# Altium schematic symbol library Diode.SchLib: 693 symbols (part 3 of 5)
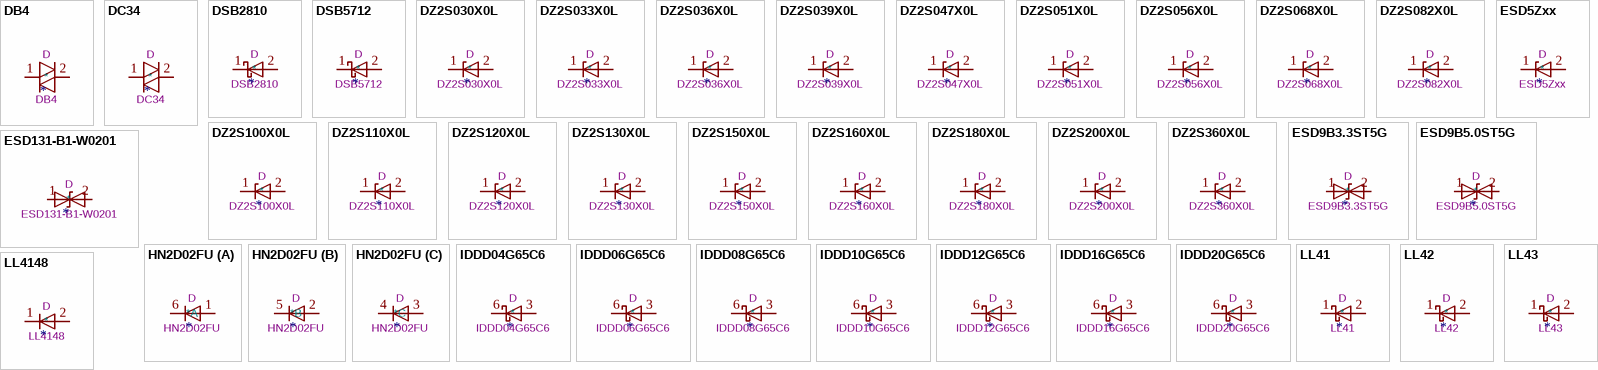
[diagram p20: symbols DB4 to LL4148]

## IDDD10G65C6
designator *  value IDDD10G65C6  Reference: D
ki_keywords: sic diode; ki_description: 650V, 10A, SiC Schottky Diode, CoolSiC, PG-HDSOP-10-1 (DDPAK); ki_fp_filters: Infineon*PG*HDSOP*; Footprint: Package_TO_SOT_SMD:Infineon_PG-HDSOP-10-1; Datasheet: https://www.infineon.com/dgdl/Infineon-IDDD10G65C6-DS-v02_00-EN.pdf?fileId=5546d462625a528f01628ff848ec1051
pins: 1 NC hidden, 2 NC hidden, 3 A, 4 A hidden, 5 A hidden, 6 K, 7 K hidden, 8 K hidden, 9 K hidden, 10 K hidden

## IDDD12G65C6
designator *  value IDDD12G65C6  Reference: D
ki_keywords: sic diode; ki_description: 650V, 12A, SiC Schottky Diode, CoolSiC, PG-HDSOP-10-1 (DDPAK); ki_fp_filters: Infineon*PG*HDSOP*; Footprint: Package_TO_SOT_SMD:Infineon_PG-HDSOP-10-1; Datasheet: https://www.infineon.com/dgdl/Infineon-IDDD12G65C6-DS-v02_00-EN.pdf?fileId=5546d462625a528f01628f86ec3e0e06
pins: 1 NC hidden, 2 NC hidden, 3 A, 4 A hidden, 5 A hidden, 6 K, 7 K hidden, 8 K hidden, 9 K hidden, 10 K hidden

## IDDD16G65C6
designator *  value IDDD16G65C6  Reference: D
ki_keywords: sic diode; ki_description: 650V, 16A, SiC Schottky Diode, CoolSiC, PG-HDSOP-10-1 (DDPAK); ki_fp_filters: Infineon*PG*HDSOP*; Footprint: Package_TO_SOT_SMD:Infineon_PG-HDSOP-10-1; Datasheet: https://www.infineon.com/dgdl/Infineon-IDDD16G65C6-DS-v02_00-EN.pdf?fileId=5546d462625a528f01628f8711b50e0c
pins: 1 NC hidden, 2 NC hidden, 3 A, 4 A hidden, 5 A hidden, 6 K, 7 K hidden, 8 K hidden, 9 K hidden, 10 K hidden

## IDDD20G65C6
designator *  value IDDD20G65C6  Reference: D
ki_keywords: sic diode; ki_description: 650V, 20A, SiC Schottky Diode, CoolSiC, PG-HDSOP-10-1 (DDPAK); ki_fp_filters: Infineon*PG*HDSOP*; Footprint: Package_TO_SOT_SMD:Infineon_PG-HDSOP-10-1; Datasheet: https://www.infineon.com/dgdl/Infineon-IDDD20G65C6-DS-v02_00-EN.pdf?fileId=5546d462625a528f01628ff837cf104e
pins: 1 NC hidden, 2 NC hidden, 3 A, 4 A hidden, 5 A hidden, 6 K, 7 K hidden, 8 K hidden, 9 K hidden, 10 K hidden

## LL41
designator *  value LL41  Reference: D
ki_keywords: diode Schottky; ki_description: 100V 0.1A Small Signal Schottky diode, MiniMELF; ki_fp_filters: D*MiniMELF*; Footprint: Diode_SMD:D_MiniMELF; Datasheet: http://www.vishay.com/docs/85659/bat41.pdf
pins: 1 K, 2 A

## LL42
designator *  value LL42  Reference: D
ki_keywords: diode Schottky; ki_description: 30V 0.2A Small Signal Schottky diode, MiniMELF; ki_fp_filters: D*MiniMELF*; Footprint: Diode_SMD:D_MiniMELF; Datasheet: http://www.vishay.com/docs/85672/ll42.pdf
pins: 1 K, 2 A

## LL43
designator *  value LL43  Reference: D
ki_keywords: diode Schottky; ki_description: 30V 0.2A Small Signal Schottky diode, MiniMELF; ki_fp_filters: D*MiniMELF*; Footprint: Diode_SMD:D_MiniMELF; Datasheet: http://www.vishay.com/docs/85672/ll42.pdf
pins: 1 K, 2 A

## LL4148
designator *  value LL4148  Reference: D
Sim.Pins: 1=K 2=A; ki_keywords: diode; ki_description: 100V 0.15A standard switching diode, MiniMELF; ki_fp_filters: D*MiniMELF*; Footprint: Diode_SMD:D_MiniMELF; Datasheet: http://www.vishay.com/docs/85557/ll4148.pdf; Sim.Device: D
pins: 1 K, 2 A

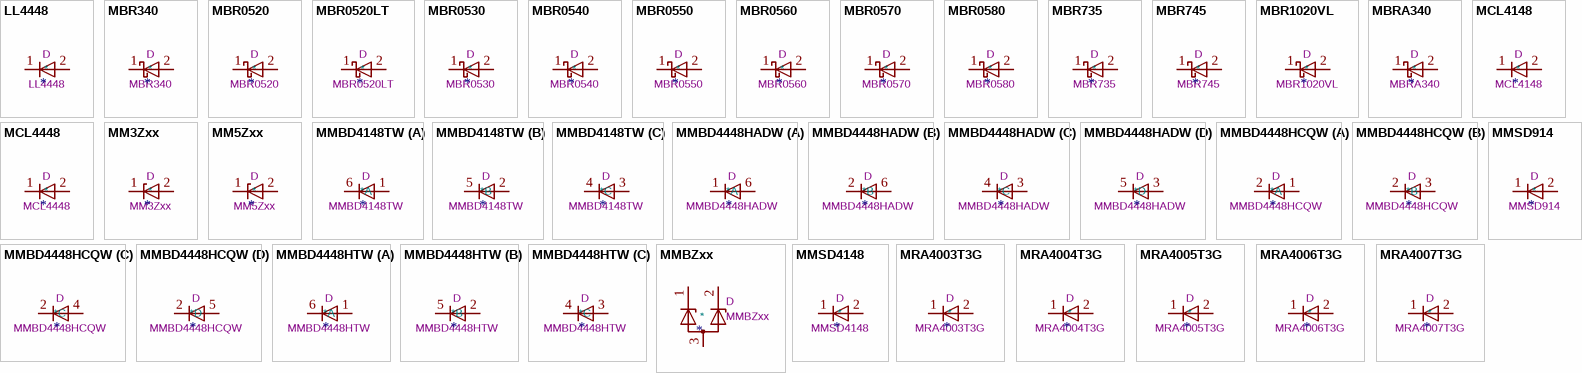
[diagram p9: symbols LL4448 to MRA4007T3G]

## LL4448
designator *  value LL4448  Reference: D
Sim.Pins: 1=K 2=A; ki_keywords: diode; ki_description: 100V 0.15A standard switching diode, MiniMELF; ki_fp_filters: D*MiniMELF*; Footprint: Diode_SMD:D_MiniMELF; Datasheet: http://www.vishay.com/docs/85557/ll4148.pdf; Sim.Device: D
pins: 1 K, 2 A

## MBR340
designator *  value MBR340  Reference: D
ki_keywords: diode Schottky; ki_description: 40V 3A Schottky Barrier Rectifier Diode, DO-201AD; ki_fp_filters: D*DO?201AD*; Footprint: Diode_THT:D_DO-201AD_P15.24mm_Horizontal; Datasheet: http://www.onsemi.com/pub_link/Collateral/MBR340-D.PDF
pins: 1 K, 2 A

## MBR0520
designator *  value MBR0520  Reference: D
ki_keywords: diode Schottky; ki_description: 20V 0.5A Schottky Power Rectifier Diode, SOD-123; ki_fp_filters: D*SOD?123*; Footprint: Diode_SMD:D_SOD-123; Datasheet: http://www.mccsemi.com/up_pdf/MBR0520~MBR0580(SOD123).pdf
pins: 1 K, 2 A

## MBR0520LT
designator *  value MBR0520LT  Reference: D
ki_keywords: diode Schottky; ki_description: 20V 0.5A Schottky Power Rectifier Diode, SOD-123; ki_fp_filters: D*SOD?123*; Footprint: Diode_SMD:D_SOD-123; Datasheet: http://www.onsemi.com/pub_link/Collateral/MBR0520LT1-D.PDF
pins: 1 K, 2 A

## MBR0530
designator *  value MBR0530  Reference: D
ki_keywords: diode Schottky; ki_description: 30V 0.5A Schottky Power Rectifier Diode, SOD-123; ki_fp_filters: D*SOD?123*; Footprint: Diode_SMD:D_SOD-123; Datasheet: http://www.mccsemi.com/up_pdf/MBR0520~MBR0580(SOD123).pdf
pins: 1 K, 2 A

## MBR0540
designator *  value MBR0540  Reference: D
ki_keywords: diode Schottky; ki_description: 40V 0.5A Schottky Power Rectifier Diode, SOD-123; ki_fp_filters: D*SOD?123*; Footprint: Diode_SMD:D_SOD-123; Datasheet: http://www.mccsemi.com/up_pdf/MBR0520~MBR0580(SOD123).pdf
pins: 1 K, 2 A

## MBR0550
designator *  value MBR0550  Reference: D
ki_keywords: diode Schottky; ki_description: 50V 0.5A Schottky Power Rectifier Diode, SOD-123; ki_fp_filters: D*SOD?123*; Footprint: Diode_SMD:D_SOD-123; Datasheet: http://www.mccsemi.com/up_pdf/MBR0520~MBR0580(SOD123).pdf
pins: 1 K, 2 A

## MBR0560
designator *  value MBR0560  Reference: D
ki_keywords: diode Schottky; ki_description: 60V 0.5A Schottky Power Rectifier Diode, SOD-123; ki_fp_filters: D*SOD?123*; Footprint: Diode_SMD:D_SOD-123; Datasheet: http://www.mccsemi.com/up_pdf/MBR0520~MBR0580(SOD123).pdf
pins: 1 K, 2 A

## MBR0570
designator *  value MBR0570  Reference: D
ki_keywords: diode Schottky; ki_description: 70V 0.5A Schottky Power Rectifier Diode, SOD-123; ki_fp_filters: D*SOD?123*; Footprint: Diode_SMD:D_SOD-123; Datasheet: http://www.mccsemi.com/up_pdf/MBR0520~MBR0580(SOD123).pdf
pins: 1 K, 2 A

## MBR0580
designator *  value MBR0580  Reference: D
ki_keywords: diode Schottky; ki_description: 80V 0.5A Schottky Power Rectifier Diode, SOD-123; ki_fp_filters: D*SOD?123*; Footprint: Diode_SMD:D_SOD-123; Datasheet: http://www.mccsemi.com/up_pdf/MBR0520~MBR0580(SOD123).pdf
pins: 1 K, 2 A

## MBR735
designator *  value MBR735  Reference: D
ki_keywords: diode Schottky; ki_description: 35V 7.5A Schottky Barrier Rectifier Diode, TO-220; ki_fp_filters: TO?220*; Footprint: Package_TO_SOT_THT:TO-220-2_Vertical; Datasheet: http://www.onsemi.com/pub_link/Collateral/MBR735-D.PDF
pins: 1 K, 2 A

## MBR745
designator *  value MBR745  Reference: D
ki_keywords: diode Schottky; ki_description: 45V 7.5A Schottky Barrier Rectifier Diode, TO-220; ki_fp_filters: TO?220*; Footprint: Package_TO_SOT_THT:TO-220-2_Vertical; Datasheet: http://www.onsemi.com/pub_link/Collateral/MBR735-D.PDF
pins: 1 K, 2 A

## MBR1020VL
designator *  value MBR1020VL  Reference: D
ki_keywords: forward voltage diode; ki_description: 20V, 1A, 340 mV, Schottky Diode Rectifier, SOD-123F; ki_fp_filters: D*SOD?123F*; Footprint: Diode_SMD:D_SOD-123F; Datasheet: https://www.onsemi.com/pub/Collateral/MBR1020VL-D.PDF
pins: 1 K, 2 A

## MBRA340
designator *  value MBRA340  Reference: D
ki_keywords: diode Schottky; ki_description: 40V 3A Schottky Barrier Rectifier Diode, SMA(DO-214AC); ki_fp_filters: D*SMA*; Footprint: Diode_SMD:D_SMA; Datasheet: https://www.onsemi.com/pub/Collateral/MBRA340T3-D.PDF
pins: 1 K, 2 A

## MCL4148
designator *  value MCL4148  Reference: D
Sim.Pins: 1=K 2=A; ki_keywords: diode; ki_description: 75V 0.2A Switching Diode, MicroMELF; ki_fp_filters: D*MicroMELF*; Footprint: Diode_SMD:D_MicroMELF; Datasheet: http://www.vishay.com/docs/85566/mlc4148.pdf; Sim.Device: D
pins: 1 K, 2 A

## MCL4448
designator *  value MCL4448  Reference: D
Sim.Pins: 1=K 2=A; ki_keywords: diode; ki_description: 75V 0.2A Switching Diode, MicroMELF; ki_fp_filters: D*MicroMELF*; Footprint: Diode_SMD:D_MicroMELF; Datasheet: http://www.vishay.com/docs/85566/mlc4148.pdf; Sim.Device: D
pins: 1 K, 2 A

## MM3Zxx
designator *  value MM3Zxx  Reference: D
ki_keywords: zener diode; ki_description: 300mW Zener Diode, SOD-323F; ki_fp_filters: D?SOD?323F*; Footprint: Diode_SMD:D_SOD-323F; Datasheet: https://diotec.com/tl_files/diotec/files/pdf/datasheets/mm3z2v4.pdf
pins: 1 K, 2 A

## MM5Zxx
designator *  value MM5Zxx  Reference: D
ki_keywords: zener diode; ki_description: 300mW Zener Diode, SOD-523; ki_fp_filters: D?SOD?523*; Footprint: Diode_SMD:D_SOD-523; Datasheet: https://diotec.com/tl_files/diotec/files/pdf/datasheets/mm5z2v4.pdf
pins: 1 K, 2 A

## MMBD4148TW
designator *  value MMBD4148TW  Reference: D
ki_keywords: diode; ki_description: Fast switching diode array 3 independent; ki_fp_filters: *SOT?363*; Footprint: Package_TO_SOT_SMD:SOT-363_SC-70-6; Datasheet: http://www.diodes.com/datasheets/ds30154.pdf
part A pins: 1 A, 6 K
part B pins: 2 A, 5 K
part C pins: 3 A, 4 K

## MMBD4448HADW
designator *  value MMBD4448HADW  Reference: D
ki_keywords: diode; ki_description: Fast Switching Diode Array 2 pair Com A; ki_fp_filters: SOT?363*; Footprint: Package_TO_SOT_SMD:SOT-363_SC-70-6; Datasheet: http://www.diodes.com/datasheets/ds30153.pdf
part A pins: 1 K, 6 A
part B pins: 2 K, 6 A
part C pins: 3 A, 4 K
part D pins: 3 A, 5 K

## MMBD4448HCQW
designator *  value MMBD4448HCQW  Reference: D
ki_keywords: diode; ki_description: Quad Switching Diode Array Common Cathode; ki_fp_filters: SOT?353*; Footprint: Package_TO_SOT_SMD:SOT-353_SC-70-5; Datasheet: http://www.diodes.com/datasheets/ds30153.pdf
part A pins: 1 A, 2 K
part B pins: 2 K, 3 A
part C pins: 2 K, 4 A
part D pins: 2 K, 5 A

## MMBD4448HTW
designator *  value MMBD4448HTW  Reference: D
ki_keywords: diode; ki_description: Fast switching diode array 3 independent; ki_fp_filters: *SOT?363*; Footprint: Package_TO_SOT_SMD:SOT-363_SC-70-6; Datasheet: http://www.diodes.com/datasheets/ds30153.pdf
part A pins: 1 A, 6 K
part B pins: 2 A, 5 K
part C pins: 3 A, 4 K

## MMBZxx
designator *  value MMBZxx  Reference: D
ki_keywords: dual zener diode; ki_description: Double Zener Diode, Common Anode, 225mW, SOT-23; ki_fp_filters: SOT?23*; Footprint: Package_TO_SOT_SMD:SOT-23; Datasheet: http://www.onsemi.com/pub/Collateral/MMBZ5V6ALT1-D.PDF
pins: 1 K, 2 K, 3 A

## MMSD914
designator *  value MMSD914  Reference: D
Sim.Pins: 1=K 2=A; ki_keywords: diode; ki_description: 100V 0.2A Switching Diode, SOD-123; ki_fp_filters: D*SOD?123*; Footprint: Diode_SMD:D_SOD-123; Datasheet: https://www.onsemi.com/pub/Collateral/MMSD914T1-D.PDF; Sim.Device: D
pins: 1 K, 2 A

## MMSD4148
designator *  value MMSD4148  Reference: D
Sim.Pins: 1=K 2=A; ki_keywords: diode; ki_description: 100V 200mA Switching Diode, SOD-123; ki_fp_filters: D*SOD?123*; Footprint: Diode_SMD:D_SOD-123; Datasheet: https://www.onsemi.com/pub/Collateral/MMSD4148T1-D.PDF; Sim.Device: D
pins: 1 K, 2 A

## MRA4003T3G
designator *  value MRA4003T3G  Reference: D
Sim.Pins: 1=K 2=A; ki_keywords: diode; ki_description: 300V, 1A, General Purpose Rectifier Diode, SMA(DO-214AC); ki_fp_filters: D*SMA*; Footprint: Diode_SMD:D_SMA; Datasheet: http://www.onsemi.com/pub_link/Collateral/MRA4003T3-D.PDF; Sim.Device: D
pins: 1 K, 2 A

## MRA4004T3G
designator *  value MRA4004T3G  Reference: D
Sim.Pins: 1=K 2=A; ki_keywords: diode; ki_description: 400V, 1A, General Purpose Rectifier Diode, SMA(DO-214AC); ki_fp_filters: D*SMA*; Footprint: Diode_SMD:D_SMA; Datasheet: http://www.onsemi.com/pub_link/Collateral/MRA4003T3-D.PDF; Sim.Device: D
pins: 1 K, 2 A

## MRA4005T3G
designator *  value MRA4005T3G  Reference: D
Sim.Pins: 1=K 2=A; ki_keywords: diode; ki_description: 600V, 1A, General Purpose Rectifier Diode, SMA(DO-214AC); ki_fp_filters: D*SMA*; Footprint: Diode_SMD:D_SMA; Datasheet: http://www.onsemi.com/pub_link/Collateral/MRA4003T3-D.PDF; Sim.Device: D
pins: 1 K, 2 A

## MRA4006T3G
designator *  value MRA4006T3G  Reference: D
Sim.Pins: 1=K 2=A; ki_keywords: diode; ki_description: 800V, 1A, General Purpose Rectifier Diode, SMA(DO-214AC); ki_fp_filters: D*SMA*; Footprint: Diode_SMD:D_SMA; Datasheet: http://www.onsemi.com/pub_link/Collateral/MRA4003T3-D.PDF; Sim.Device: D
pins: 1 K, 2 A

## MRA4007T3G
designator *  value MRA4007T3G  Reference: D
Sim.Pins: 1=K 2=A; ki_keywords: diode; ki_description: 1000V, 1A, General Purpose Rectifier Diode, SMA(DO-214AC); ki_fp_filters: D*SMA*; Footprint: Diode_SMD:D_SMA; Datasheet: http://www.onsemi.com/pub_link/Collateral/MRA4003T3-D.PDF; Sim.Device: D
pins: 1 K, 2 A

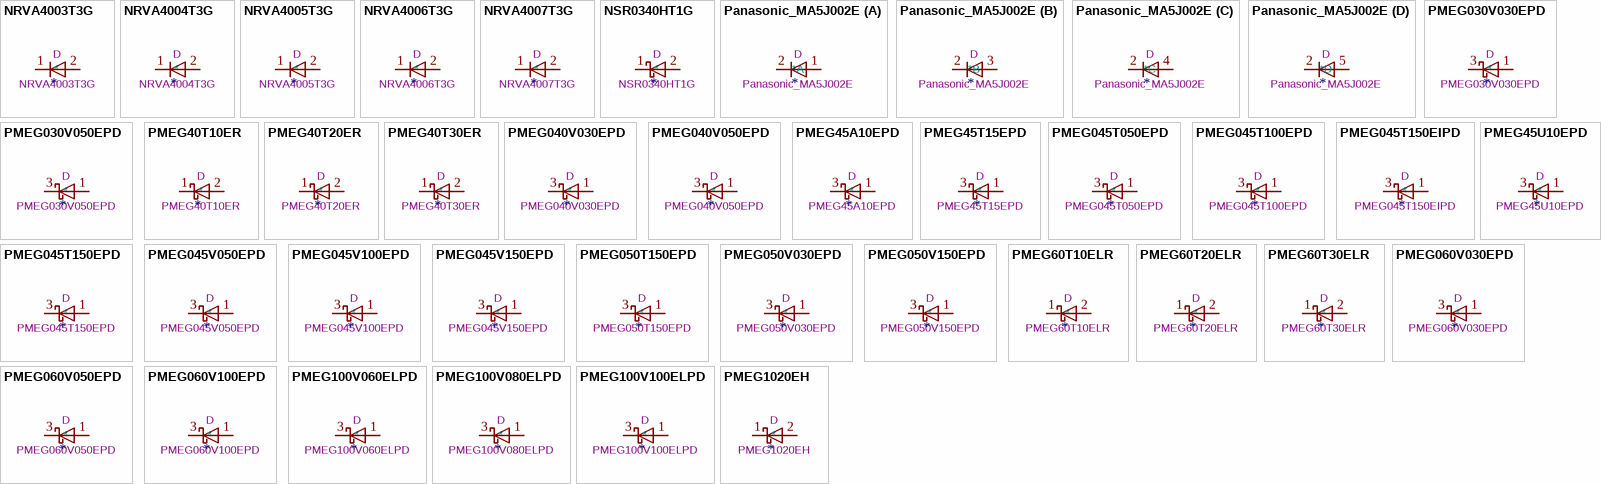
[diagram p10: symbols NRVA4003T3G to PMEG1020EH]

## NRVA4003T3G
designator *  value NRVA4003T3G  Reference: D
Sim.Pins: 1=K 2=A; ki_keywords: AEC-Q101; ki_description: 300V, 1A, General Purpose Rectifier Diode, SMA(DO-214AC); ki_fp_filters: D*SMA*; Footprint: Diode_SMD:D_SMA; Datasheet: http://www.onsemi.com/pub_link/Collateral/MRA4003T3-D.PDF; Sim.Device: D
pins: 1 K, 2 A

## NRVA4004T3G
designator *  value NRVA4004T3G  Reference: D
Sim.Pins: 1=K 2=A; ki_keywords: AEC-Q101; ki_description: 400V, 1A, General Purpose Rectifier Diode, SMA(DO-214AC); ki_fp_filters: D*SMA*; Footprint: Diode_SMD:D_SMA; Datasheet: http://www.onsemi.com/pub_link/Collateral/MRA4003T3-D.PDF; Sim.Device: D
pins: 1 K, 2 A

## NRVA4005T3G
designator *  value NRVA4005T3G  Reference: D
Sim.Pins: 1=K 2=A; ki_keywords: AEC-Q101; ki_description: 600V, 1A, General Purpose Rectifier Diode, SMA(DO-214AC); ki_fp_filters: D*SMA*; Footprint: Diode_SMD:D_SMA; Datasheet: http://www.onsemi.com/pub_link/Collateral/MRA4003T3-D.PDF; Sim.Device: D
pins: 1 K, 2 A

## NRVA4006T3G
designator *  value NRVA4006T3G  Reference: D
Sim.Pins: 1=K 2=A; ki_keywords: AEC-Q101; ki_description: 800V, 1A, General Purpose Rectifier Diode, SMA(DO-214AC); ki_fp_filters: D*SMA*; Footprint: Diode_SMD:D_SMA; Datasheet: http://www.onsemi.com/pub_link/Collateral/MRA4003T3-D.PDF; Sim.Device: D
pins: 1 K, 2 A

## NRVA4007T3G
designator *  value NRVA4007T3G  Reference: D
Sim.Pins: 1=K 2=A; ki_keywords: AEC-Q101; ki_description: 1000V, 1A, General Purpose Rectifier Diode, SMA(DO-214AC); ki_fp_filters: D*SMA*; Footprint: Diode_SMD:D_SMA; Datasheet: http://www.onsemi.com/pub_link/Collateral/MRA4003T3-D.PDF; Sim.Device: D
pins: 1 K, 2 A

## NSR0340HT1G
designator *  value NSR0340HT1G  Reference: D
ki_keywords: diode Schottky; ki_description: 40V 0.25A Schottky Diode, SOD-323; ki_fp_filters: D*SOD?323*; Footprint: Diode_SMD:D_SOD-323; Datasheet: https://www.onsemi.com/pub/Collateral/NSR0340H-D.PDF
pins: 1 K, 2 A

## Panasonic_MA5J002E
designator *  value Panasonic_MA5J002E  Reference: D
ki_keywords: diode; ki_description: Quad Ultra high Speed Switching Diode Array Com K; ki_fp_filters: SOT?353*; Footprint: Package_TO_SOT_SMD:SOT-353_SC-70-5; Datasheet: http://www.semicon.panasonic.co.jp/ds4/MA5J002E_BED_discon.pdf
part A pins: 1 A, 2 K
part B pins: 2 K, 3 A
part C pins: 2 K, 4 A
part D pins: 2 K, 5 A

## PMEG030V030EPD
designator *  value PMEG030V030EPD  Reference: D
ki_keywords: forward voltage diode; ki_description: 30V, 3A low Vf MEGA Schottky barrier rectifier, SOT-1289; ki_fp_filters: Nexperia*CFP15*SOT?1289*; Footprint: Package_TO_SOT_SMD:Nexperia_CFP15_SOT-1289; Datasheet: https://assets.nexperia.com/documents/data-sheet/PMEG030V030EPD.pdf
pins: 1 A, 2 A hidden, 3 K

## PMEG030V050EPD
designator *  value PMEG030V050EPD  Reference: D
ki_keywords: forward voltage diode; ki_description: 30V, 5A low Vf MEGA Schottky barrier rectifier, SOT-1289; ki_fp_filters: Nexperia*CFP15*SOT?1289*; Footprint: Package_TO_SOT_SMD:Nexperia_CFP15_SOT-1289; Datasheet: https://assets.nexperia.com/documents/data-sheet/PMEG030V050EPD.pdf
pins: 1 A, 2 A hidden, 3 K

## PMEG40T10ER
designator *  value PMEG40T10ER  Reference: D
ki_keywords: forward voltage diode; ki_description: 40V, 1A low Vf Trench MEGA Schottky barrier rectifier, SOD-123W; ki_fp_filters: Nexperia*CFP3*SOD?123W*; Footprint: Diode_SMD:Nexperia_CFP3_SOD-123W; Datasheet: https://assets.nexperia.com/documents/data-sheet/PMEG40T10ER.pdf
pins: 1 K, 2 A

## PMEG40T20ER
designator *  value PMEG40T20ER  Reference: D
ki_keywords: forward voltage diode; ki_description: 40V, 2A low Vf Trench MEGA Schottky barrier rectifier, SOD-123W; ki_fp_filters: Nexperia*CFP3*SOD?123W*; Footprint: Diode_SMD:Nexperia_CFP3_SOD-123W; Datasheet: https://assets.nexperia.com/documents/data-sheet/PMEG40T20ER.pdf
pins: 1 K, 2 A

## PMEG40T30ER
designator *  value PMEG40T30ER  Reference: D
ki_keywords: forward voltage diode; ki_description: 40V, 3A low Vf Trench MEGA Schottky barrier rectifier, SOD-123W; ki_fp_filters: Nexperia*CFP3*SOD?123W*; Footprint: Diode_SMD:Nexperia_CFP3_SOD-123W; Datasheet: https://assets.nexperia.com/documents/data-sheet/PMEG40T30ER.pdf
pins: 1 K, 2 A

## PMEG040V030EPD
designator *  value PMEG040V030EPD  Reference: D
ki_keywords: forward voltage diode; ki_description: 40V, 3A low Vf MEGA Schottky barrier rectifier, SOT-1289; ki_fp_filters: Nexperia*CFP15*SOT?1289*; Footprint: Package_TO_SOT_SMD:Nexperia_CFP15_SOT-1289; Datasheet: https://assets.nexperia.com/documents/data-sheet/PMEG040V030EPD.pdf
pins: 1 A, 2 A hidden, 3 K

## PMEG040V050EPD
designator *  value PMEG040V050EPD  Reference: D
ki_keywords: forward voltage diode; ki_description: 40V, 5A low Vf MEGA Schottky barrier rectifier, SOT-1289; ki_fp_filters: Nexperia*CFP15*SOT?1289*; Footprint: Package_TO_SOT_SMD:Nexperia_CFP15_SOT-1289; Datasheet: https://assets.nexperia.com/documents/data-sheet/PMEG040V050EPD.pdf
pins: 1 A, 2 A hidden, 3 K

## PMEG45A10EPD
designator *  value PMEG45A10EPD  Reference: D
ki_keywords: forward voltage diode; ki_description: 45V, 10A low Vf MEGA Schottky barrier rectifier, SOT-1289; ki_fp_filters: Nexperia*CFP15*SOT?1289*; Footprint: Package_TO_SOT_SMD:Nexperia_CFP15_SOT-1289; Datasheet: https://assets.nexperia.com/documents/data-sheet/PMEG45A10EPD.pdf
pins: 1 A, 2 A hidden, 3 K

## PMEG45T15EPD
designator *  value PMEG45T15EPD  Reference: D
ki_keywords: forward voltage diode; ki_description: 45V, 15A low Vf Trench MEGA Schottky barrier rectifier, SOT-1289; ki_fp_filters: Nexperia*CFP15*SOT?1289*; Footprint: Package_TO_SOT_SMD:Nexperia_CFP15_SOT-1289; Datasheet: https://assets.nexperia.com/documents/data-sheet/PMEG45T15EPD.pdf
pins: 1 A, 2 A hidden, 3 K

## PMEG045T050EPD
designator *  value PMEG045T050EPD  Reference: D
ki_keywords: forward voltage diode; ki_description: 45V, 5A low Vf Trench MEGA Schottky barrier rectifier, SOT-1289; ki_fp_filters: Nexperia*CFP15*SOT?1289*; Footprint: Package_TO_SOT_SMD:Nexperia_CFP15_SOT-1289; Datasheet: https://assets.nexperia.com/documents/data-sheet/PMEG045T050EPD.pdf
pins: 1 A, 2 A hidden, 3 K

## PMEG045T100EPD
designator *  value PMEG045T100EPD  Reference: D
ki_keywords: forward voltage diode; ki_description: 45V, 10A low Vf Trench MEGA Schottky barrier rectifier, SOT-1289; ki_fp_filters: Nexperia*CFP15*SOT?1289*; Footprint: Package_TO_SOT_SMD:Nexperia_CFP15_SOT-1289; Datasheet: https://assets.nexperia.com/documents/data-sheet/PMEG045T100EPD.pdf
pins: 1 A, 2 A hidden, 3 K

## PMEG045T150EIPD
designator *  value PMEG045T150EIPD  Reference: D
ki_keywords: forward voltage diode; ki_description: 45V, 15A low Vf Trench MEGA Schottky barrier rectifier, SOT-1289; ki_fp_filters: Nexperia*CFP15*SOT?1289*; Footprint: Package_TO_SOT_SMD:Nexperia_CFP15_SOT-1289; Datasheet: https://assets.nexperia.com/documents/data-sheet/PMEG045T150EIPD.pdf
pins: 1 A, 2 A hidden, 3 K

## PMEG045T150EPD
designator *  value PMEG045T150EPD  Reference: D
ki_keywords: forward voltage diode; ki_description: 45V, 15A low Vf Trench MEGA Schottky barrier rectifier, SOT-1289; ki_fp_filters: Nexperia*CFP15*SOT?1289*; Footprint: Package_TO_SOT_SMD:Nexperia_CFP15_SOT-1289; Datasheet: https://assets.nexperia.com/documents/data-sheet/PMEG045T150EPD.pdf
pins: 1 A, 2 A hidden, 3 K

## PMEG45U10EPD
designator *  value PMEG45U10EPD  Reference: D
ki_keywords: forward voltage diode; ki_description: 45V, 10A extremely low Vf MEGA Schottky barrier rectifier, SOT-1289; ki_fp_filters: Nexperia*CFP15*SOT?1289*; Footprint: Package_TO_SOT_SMD:Nexperia_CFP15_SOT-1289; Datasheet: https://assets.nexperia.com/documents/data-sheet/PMEG45U10EPD.pdf
pins: 1 A, 2 A hidden, 3 K

## PMEG045V050EPD
designator *  value PMEG045V050EPD  Reference: D
ki_keywords: forward voltage diode; ki_description: 45V, 5A low Vf MEGA Schottky barrier rectifier, SOT-1289; ki_fp_filters: Nexperia*CFP15*SOT?1289*; Footprint: Package_TO_SOT_SMD:Nexperia_CFP15_SOT-1289; Datasheet: https://assets.nexperia.com/documents/data-sheet/PMEG045V050EPD.pdf
pins: 1 A, 2 A hidden, 3 K

## PMEG045V100EPD
designator *  value PMEG045V100EPD  Reference: D
ki_keywords: forward voltage diode; ki_description: 45V, 10A low Vf MEGA Schottky barrier rectifier, SOT-1289; ki_fp_filters: Nexperia*CFP15*SOT?1289*; Footprint: Package_TO_SOT_SMD:Nexperia_CFP15_SOT-1289; Datasheet: https://assets.nexperia.com/documents/data-sheet/PMEG045V100EPD.pdf
pins: 1 A, 2 A hidden, 3 K

## PMEG045V150EPD
designator *  value PMEG045V150EPD  Reference: D
ki_keywords: forward voltage diode; ki_description: 45V, 15A low Vf MEGA Schottky barrier rectifier, SOT-1289; ki_fp_filters: Nexperia*CFP15*SOT?1289*; Footprint: Package_TO_SOT_SMD:Nexperia_CFP15_SOT-1289; Datasheet: https://assets.nexperia.com/documents/data-sheet/PMEG045V150EPD.pdf
pins: 1 A, 2 A hidden, 3 K

## PMEG050T150EPD
designator *  value PMEG050T150EPD  Reference: D
ki_keywords: forward voltage diode; ki_description: 50V, 15A low Vf Trench MEGA Schottky barrier rectifier, SOT-1289; ki_fp_filters: Nexperia*CFP15*SOT?1289*; Footprint: Package_TO_SOT_SMD:Nexperia_CFP15_SOT-1289; Datasheet: https://assets.nexperia.com/documents/data-sheet/PMEG050T150EPD.pdf
pins: 1 A, 2 A hidden, 3 K

## PMEG050V030EPD
designator *  value PMEG050V030EPD  Reference: D
ki_keywords: forward voltage diode; ki_description: 50V, 3A low Vf MEGA Schottky barrier rectifier, SOT-1289; ki_fp_filters: Nexperia*CFP15*SOT?1289*; Footprint: Package_TO_SOT_SMD:Nexperia_CFP15_SOT-1289; Datasheet: https://assets.nexperia.com/documents/data-sheet/PMEG050V030EPD.pdf
pins: 1 A, 2 A hidden, 3 K

## PMEG050V150EPD
designator *  value PMEG050V150EPD  Reference: D
ki_keywords: forward voltage diode; ki_description: 50V, 15A low Vf MEGA Schottky barrier rectifier, SOT-1289; ki_fp_filters: Nexperia*CFP15*SOT?1289*; Footprint: Package_TO_SOT_SMD:Nexperia_CFP15_SOT-1289; Datasheet: https://assets.nexperia.com/documents/data-sheet/PMEG050V150EPD.pdf
pins: 1 A, 2 A hidden, 3 K

## PMEG60T10ELR
designator *  value PMEG60T10ELR  Reference: D
ki_keywords: ir diode; ki_description: 60V, 1A low leakage current Trench MEGA Schottky barrier rectifier, SOD-123W; ki_fp_filters: Nexperia*CFP3*SOD?123W*; Footprint: Diode_SMD:Nexperia_CFP3_SOD-123W; Datasheet: https://assets.nexperia.com/documents/data-sheet/PMEG60T10ELR.pdf
pins: 1 K, 2 A

## PMEG60T20ELR
designator *  value PMEG60T20ELR  Reference: D
ki_keywords: ir diode; ki_description: 60V, 2A low leakage current Trench MEGA Schottky barrier rectifier, SOD-123W; ki_fp_filters: Nexperia*CFP3*SOD?123W*; Footprint: Diode_SMD:Nexperia_CFP3_SOD-123W; Datasheet: https://assets.nexperia.com/documents/data-sheet/PMEG60T20ELR.pdf
pins: 1 K, 2 A

## PMEG60T30ELR
designator *  value PMEG60T30ELR  Reference: D
ki_keywords: ir diode; ki_description: 60V, 3A low leakage current Trench MEGA Schottky barrier rectifier, SOD-123W; ki_fp_filters: Nexperia*CFP3*SOD?123W*; Footprint: Diode_SMD:Nexperia_CFP3_SOD-123W; Datasheet: https://assets.nexperia.com/documents/data-sheet/PMEG60T30ELR.pdf
pins: 1 K, 2 A

## PMEG060V030EPD
designator *  value PMEG060V030EPD  Reference: D
ki_keywords: forward voltage diode; ki_description: 60V, 3A low Vf MEGA Schottky barrier rectifier, SOT-1289; ki_fp_filters: Nexperia*CFP15*SOT?1289*; Footprint: Package_TO_SOT_SMD:Nexperia_CFP15_SOT-1289; Datasheet: https://assets.nexperia.com/documents/data-sheet/PMEG060V030EPD.pdf
pins: 1 A, 2 A hidden, 3 K

## PMEG060V050EPD
designator *  value PMEG060V050EPD  Reference: D
ki_keywords: forward voltage diode; ki_description: 60V, 5A low Vf MEGA Schottky barrier rectifier, SOT-1289; ki_fp_filters: Nexperia*CFP15*SOT?1289*; Footprint: Package_TO_SOT_SMD:Nexperia_CFP15_SOT-1289; Datasheet: https://assets.nexperia.com/documents/data-sheet/PMEG060V050EPD.pdf
pins: 1 A, 2 A hidden, 3 K

## PMEG060V100EPD
designator *  value PMEG060V100EPD  Reference: D
ki_keywords: forward voltage diode; ki_description: 60V, 10A low Vf MEGA Schottky barrier rectifier, SOT-1289; ki_fp_filters: Nexperia*CFP15*SOT?1289*; Footprint: Package_TO_SOT_SMD:Nexperia_CFP15_SOT-1289; Datasheet: https://assets.nexperia.com/documents/data-sheet/PMEG060V100EPD.pdf
pins: 1 A, 2 A hidden, 3 K

## PMEG100V060ELPD
designator *  value PMEG100V060ELPD  Reference: D
ki_keywords: ir diode; ki_description: 100V, 6A low leakage current MEGA Schottky barrier rectifier, SOT-1289; ki_fp_filters: Nexperia*CFP15*SOT?1289*; Footprint: Package_TO_SOT_SMD:Nexperia_CFP15_SOT-1289; Datasheet: https://assets.nexperia.com/documents/data-sheet/PMEG100V060ELPD.pdf
pins: 1 A, 2 A hidden, 3 K

## PMEG100V080ELPD
designator *  value PMEG100V080ELPD  Reference: D
ki_keywords: ir diode; ki_description: 100V, 8A low leakage current MEGA Schottky barrier rectifier, SOT-1289; ki_fp_filters: Nexperia*CFP15*SOT?1289*; Footprint: Package_TO_SOT_SMD:Nexperia_CFP15_SOT-1289; Datasheet: https://assets.nexperia.com/documents/data-sheet/PMEG100V080ELPD.pdf
pins: 1 A, 2 A hidden, 3 K

## PMEG100V100ELPD
designator *  value PMEG100V100ELPD  Reference: D
ki_keywords: ir diode; ki_description: 100V, 10A low leakage current MEGA Schottky barrier rectifier, SOT-1289; ki_fp_filters: Nexperia*CFP15*SOT?1289*; Footprint: Package_TO_SOT_SMD:Nexperia_CFP15_SOT-1289; Datasheet: https://assets.nexperia.com/documents/data-sheet/PMEG100V100ELPD.pdf
pins: 1 A, 2 A hidden, 3 K

## PMEG1020EH
designator *  value PMEG1020EH  Reference: D
ki_keywords: forward voltage diode; ki_description: 10V, 2A ultra low Vf MEGA Schottky barrier rectifier, SOD-123F; ki_fp_filters: D*SOD?123F*; Footprint: Diode_SMD:D_SOD-123F; Datasheet: https://assets.nexperia.com/documents/data-sheet/PMEG1020EH_EJ.pdf
pins: 1 K, 2 A

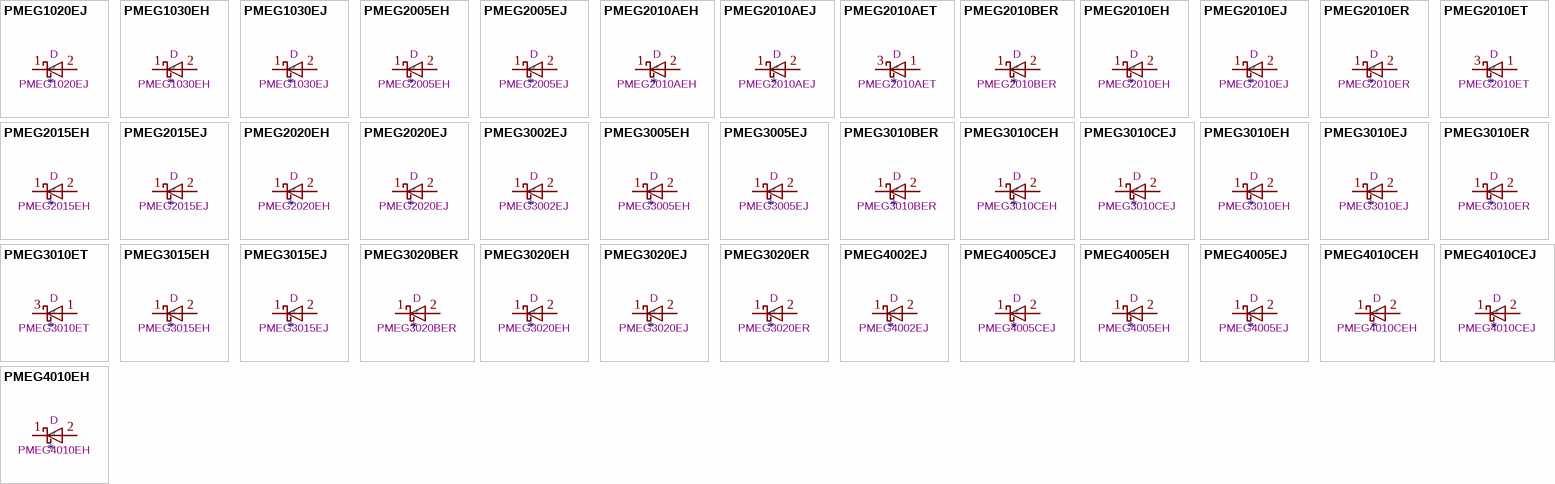
[diagram p11: symbols PMEG1020EJ to PMEG4010EH]

## PMEG1020EJ
designator *  value PMEG1020EJ  Reference: D
ki_keywords: forward voltage diode; ki_description: 10V, 2A ultra low Vf MEGA Schottky barrier rectifier, SOD-323F; ki_fp_filters: D*SOD?323F*; Footprint: Diode_SMD:D_SOD-323F; Datasheet: https://assets.nexperia.com/documents/data-sheet/PMEG1020EH_EJ.pdf
pins: 1 K, 2 A

## PMEG1030EH
designator *  value PMEG1030EH  Reference: D
ki_keywords: forward voltage diode; ki_description: 10V, 3A ultra low Vf MEGA Schottky barrier rectifier, SOD-123F; ki_fp_filters: D*SOD?123F*; Footprint: Diode_SMD:D_SOD-123F; Datasheet: https://assets.nexperia.com/documents/data-sheet/PMEG1030EH_EJ.pdf
pins: 1 K, 2 A

## PMEG1030EJ
designator *  value PMEG1030EJ  Reference: D
ki_keywords: forward voltage diode; ki_description: 10V, 3A ultra low Vf MEGA Schottky barrier rectifier, SOD-323F; ki_fp_filters: D*SOD?323F*; Footprint: Diode_SMD:D_SOD-323F; Datasheet: https://assets.nexperia.com/documents/data-sheet/PMEG1030EH_EJ.pdf
pins: 1 K, 2 A

## PMEG2005EH
designator *  value PMEG2005EH  Reference: D
ki_keywords: forward voltage diode; ki_description: 20V, 500mA very low Vf MEGA Schottky barrier rectifier, SOD-123F; ki_fp_filters: D*SOD?123F*; Footprint: Diode_SMD:D_SOD-123F; Datasheet: https://assets.nexperia.com/documents/data-sheet/PMEGXX05EH_EJ_SER.pdf
pins: 1 K, 2 A

## PMEG2005EJ
designator *  value PMEG2005EJ  Reference: D
ki_keywords: forward voltage diode; ki_description: 20V, 500mA very low Vf MEGA Schottky barrier rectifier, SOD-323F; ki_fp_filters: D*SOD?323F*; Footprint: Diode_SMD:D_SOD-323F; Datasheet: https://assets.nexperia.com/documents/data-sheet/PMEGXX05EH_EJ_SER.pdf
pins: 1 K, 2 A

## PMEG2010AEH
designator *  value PMEG2010AEH  Reference: D
ki_keywords: forward voltage diode; ki_description: 20V, 1A very low Vf MEGA Schottky barrier rectifier, SOD-123F; ki_fp_filters: D*SOD?123F*; Footprint: Diode_SMD:D_SOD-123F; Datasheet: https://assets.nexperia.com/documents/data-sheet/PMEG2010AEH_PMEG2010AET.pdf
pins: 1 K, 2 A

## PMEG2010AEJ
designator *  value PMEG2010AEJ  Reference: D
ki_keywords: forward voltage diode; ki_description: 20V, 1A very low Vf MEGA Schottky barrier rectifier, SOD-323F; ki_fp_filters: D*SOD?323F*; Footprint: Diode_SMD:D_SOD-323F; Datasheet: https://assets.nexperia.com/documents/data-sheet/PMEG2010AEJ.pdf
pins: 1 K, 2 A

## PMEG2010AET
designator *  value PMEG2010AET  Reference: D
ki_keywords: forward voltage diode; ki_description: 20V, 1A very low Vf MEGA Schottky barrier rectifier, SOT-23; ki_fp_filters: SOT?23*; Footprint: Package_TO_SOT_SMD:SOT-23; Datasheet: https://assets.nexperia.com/documents/data-sheet/PMEG2010AEH_PMEG2010AET.pdf
pins: 1 A, 2 NC hidden, 3 K

## PMEG2010BER
designator *  value PMEG2010BER  Reference: D
ki_keywords: forward voltage diode; ki_description: 20V, 1A low Vf MEGA Schottky barrier rectifier, SOD-123W; ki_fp_filters: Nexperia*CFP3*SOD?123W*; Footprint: Diode_SMD:Nexperia_CFP3_SOD-123W; Datasheet: https://assets.nexperia.com/documents/data-sheet/PMEG2010BER.pdf
pins: 1 K, 2 A

## PMEG2010EH
designator *  value PMEG2010EH  Reference: D
ki_keywords: forward voltage diode; ki_description: 20V, 1A very low Vf MEGA Schottky barrier rectifier, SOD-123F; ki_fp_filters: D*SOD?123F*; Footprint: Diode_SMD:D_SOD-123F; Datasheet: https://assets.nexperia.com/documents/data-sheet/PMEG2010EH_EJ_ET.pdf
pins: 1 K, 2 A

## PMEG2010EJ
designator *  value PMEG2010EJ  Reference: D
ki_keywords: forward voltage diode; ki_description: 20V, 1A very low Vf MEGA Schottky barrier rectifier, SOD-323F; ki_fp_filters: D*SOD?323F*; Footprint: Diode_SMD:D_SOD-323F; Datasheet: https://assets.nexperia.com/documents/data-sheet/PMEG2010EH_EJ_ET.pdf
pins: 1 K, 2 A

## PMEG2010ER
designator *  value PMEG2010ER  Reference: D
ki_keywords: forward voltage diode; ki_description: 20V, 1A low Vf MEGA Schottky barrier rectifier, SOD-123W; ki_fp_filters: Nexperia*CFP3*SOD?123W*; Footprint: Diode_SMD:Nexperia_CFP3_SOD-123W; Datasheet: https://assets.nexperia.com/documents/data-sheet/PMEG2010ER.pdf
pins: 1 K, 2 A

## PMEG2010ET
designator *  value PMEG2010ET  Reference: D
ki_keywords: forward voltage diode; ki_description: 20V, 1A very low Vf MEGA Schottky barrier rectifier, SOT-23; ki_fp_filters: SOT?23*; Footprint: Package_TO_SOT_SMD:SOT-23; Datasheet: https://assets.nexperia.com/documents/data-sheet/PMEG2010EH_EJ_ET.pdf
pins: 1 A, 2 NC hidden, 3 K

## PMEG2015EH
designator *  value PMEG2015EH  Reference: D
ki_keywords: forward voltage diode; ki_description: 20V, 1.5A very low Vf MEGA Schottky barrier rectifier, SOD-123F; ki_fp_filters: D*SOD?123F*; Footprint: Diode_SMD:D_SOD-123F; Datasheet: https://assets.nexperia.com/documents/data-sheet/PMEG2015EH_EJ.pdf
pins: 1 K, 2 A

## PMEG2015EJ
designator *  value PMEG2015EJ  Reference: D
ki_keywords: forward voltage diode; ki_description: 20V, 1.5A very low Vf MEGA Schottky barrier rectifier, SOD-323F; ki_fp_filters: D*SOD?323F*; Footprint: Diode_SMD:D_SOD-323F; Datasheet: https://assets.nexperia.com/documents/data-sheet/PMEG2015EH_EJ.pdf
pins: 1 K, 2 A

## PMEG2020EH
designator *  value PMEG2020EH  Reference: D
ki_keywords: forward voltage diode; ki_description: 20V, 2A very low Vf MEGA Schottky barrier rectifier, SOD-123F; ki_fp_filters: D*SOD?123F*; Footprint: Diode_SMD:D_SOD-123F; Datasheet: https://assets.nexperia.com/documents/data-sheet/PMEG2020EH_EJ.pdf
pins: 1 K, 2 A

## PMEG2020EJ
designator *  value PMEG2020EJ  Reference: D
ki_keywords: forward voltage diode; ki_description: 20V, 2A very low Vf MEGA Schottky barrier rectifier, SOD-323F; ki_fp_filters: D*SOD?323F*; Footprint: Diode_SMD:D_SOD-323F; Datasheet: https://assets.nexperia.com/documents/data-sheet/PMEG2020EH_EJ.pdf
pins: 1 K, 2 A

## PMEG3002EJ
designator *  value PMEG3002EJ  Reference: D
ki_keywords: forward voltage diode; ki_description: 30V, 200mA low Vf MEGA Schottky barrier rectifier, SOD-323F; ki_fp_filters: D*SOD?323F*; Footprint: Diode_SMD:D_SOD-323F; Datasheet: https://assets.nexperia.com/documents/data-sheet/PMEG3002EJ.pdf
pins: 1 K, 2 A

## PMEG3005EH
designator *  value PMEG3005EH  Reference: D
ki_keywords: forward voltage diode; ki_description: 30V, 500mA very low Vf MEGA Schottky barrier rectifier, SOD-123F; ki_fp_filters: D*SOD?123F*; Footprint: Diode_SMD:D_SOD-123F; Datasheet: https://assets.nexperia.com/documents/data-sheet/PMEGXX05EH_EJ_SER.pdf
pins: 1 K, 2 A

## PMEG3005EJ
designator *  value PMEG3005EJ  Reference: D
ki_keywords: forward voltage diode; ki_description: 30V, 500mA very low Vf MEGA Schottky barrier rectifier, SOD-323F; ki_fp_filters: D*SOD?323F*; Footprint: Diode_SMD:D_SOD-323F; Datasheet: https://assets.nexperia.com/documents/data-sheet/PMEGXX05EH_EJ_SER.pdf
pins: 1 K, 2 A

## PMEG3010BER
designator *  value PMEG3010BER  Reference: D
ki_keywords: forward voltage diode; ki_description: 30V, 1A low Vf MEGA Schottky barrier rectifier, SOD-123W; ki_fp_filters: Nexperia*CFP3*SOD?123W*; Footprint: Diode_SMD:Nexperia_CFP3_SOD-123W; Datasheet: https://assets.nexperia.com/documents/data-sheet/PMEG3010BER.pdf
pins: 1 K, 2 A

## PMEG3010CEH
designator *  value PMEG3010CEH  Reference: D
ki_keywords: forward voltage diode; ki_description: 30V, 1A very low Vf MEGA Schottky barrier rectifier, SOD-123F; ki_fp_filters: D*SOD?123F*; Footprint: Diode_SMD:D_SOD-123F; Datasheet: https://assets.nexperia.com/documents/data-sheet/PMEG3010CEH_PMEG3010CEJ.pdf
pins: 1 K, 2 A

## PMEG3010CEJ
designator *  value PMEG3010CEJ  Reference: D
ki_keywords: forward voltage diode; ki_description: 30V, 1A very low Vf MEGA Schottky barrier rectifier, SOD-323F; ki_fp_filters: D*SOD?323F*; Footprint: Diode_SMD:D_SOD-323F; Datasheet: https://assets.nexperia.com/documents/data-sheet/PMEG3010CEH_PMEG3010CEJ.pdf
pins: 1 K, 2 A

## PMEG3010EH
designator *  value PMEG3010EH  Reference: D
ki_keywords: forward voltage diode; ki_description: 30V, 1A very low Vf MEGA Schottky barrier rectifier, SOD-123F; ki_fp_filters: D*SOD?123F*; Footprint: Diode_SMD:D_SOD-123F; Datasheet: https://assets.nexperia.com/documents/data-sheet/PMEG3010EH_EJ_ET.pdf
pins: 1 K, 2 A

## PMEG3010EJ
designator *  value PMEG3010EJ  Reference: D
ki_keywords: forward voltage diode; ki_description: 30V, 1A very low Vf MEGA Schottky barrier rectifier, SOD-323F; ki_fp_filters: D*SOD?323F*; Footprint: Diode_SMD:D_SOD-323F; Datasheet: https://assets.nexperia.com/documents/data-sheet/PMEG3010EH_EJ_ET.pdf
pins: 1 K, 2 A

## PMEG3010ER
designator *  value PMEG3010ER  Reference: D
ki_keywords: forward voltage diode; ki_description: 30V, 1A low Vf MEGA Schottky barrier rectifier, SOD-123W; ki_fp_filters: Nexperia*CFP3*SOD?123W*; Footprint: Diode_SMD:Nexperia_CFP3_SOD-123W; Datasheet: https://assets.nexperia.com/documents/data-sheet/PMEG3010ER.pdf
pins: 1 K, 2 A

## PMEG3010ET
designator *  value PMEG3010ET  Reference: D
ki_keywords: forward voltage diode; ki_description: 30V, 1A very low Vf MEGA Schottky barrier rectifier, SOT-23; ki_fp_filters: SOT?23*; Footprint: Package_TO_SOT_SMD:SOT-23; Datasheet: https://assets.nexperia.com/documents/data-sheet/PMEG3010EH_EJ_ET.pdf
pins: 1 A, 2 NC hidden, 3 K

## PMEG3015EH
designator *  value PMEG3015EH  Reference: D
ki_keywords: forward voltage diode; ki_description: 30V, 1.5A ultra low Vf MEGA Schottky barrier rectifier, SOD-123F; ki_fp_filters: D*SOD?123F*; Footprint: Diode_SMD:D_SOD-123F; Datasheet: https://assets.nexperia.com/documents/data-sheet/PMEG3015EH_EJ.pdf
pins: 1 K, 2 A

## PMEG3015EJ
designator *  value PMEG3015EJ  Reference: D
ki_keywords: forward voltage diode; ki_description: 30V, 1.5A ultra low Vf MEGA Schottky barrier rectifier, SOD-323F; ki_fp_filters: D*SOD?323F*; Footprint: Diode_SMD:D_SOD-323F; Datasheet: https://assets.nexperia.com/documents/data-sheet/PMEG3015EH_EJ.pdf
pins: 1 K, 2 A

## PMEG3020BER
designator *  value PMEG3020BER  Reference: D
ki_keywords: forward voltage diode; ki_description: 30V, 2A low Vf MEGA Schottky barrier rectifier, SOD-123W; ki_fp_filters: Nexperia*CFP3*SOD?123W*; Footprint: Diode_SMD:Nexperia_CFP3_SOD-123W; Datasheet: https://assets.nexperia.com/documents/data-sheet/PMEG3020BER.pdf
pins: 1 K, 2 A

## PMEG3020EH
designator *  value PMEG3020EH  Reference: D
ki_keywords: forward voltage diode; ki_description: 30V, 2A ultra low Vf MEGA Schottky barrier rectifier, SOD-123F; ki_fp_filters: D*SOD?123F*; Footprint: Diode_SMD:D_SOD-123F; Datasheet: https://assets.nexperia.com/documents/data-sheet/PMEG3020EH_EJ.pdf
pins: 1 K, 2 A

## PMEG3020EJ
designator *  value PMEG3020EJ  Reference: D
ki_keywords: forward voltage diode; ki_description: 30V, 2A ultra low Vf MEGA Schottky barrier rectifier, SOD-323F; ki_fp_filters: D*SOD?323F*; Footprint: Diode_SMD:D_SOD-323F; Datasheet: https://assets.nexperia.com/documents/data-sheet/PMEG3020EH_EJ.pdf
pins: 1 K, 2 A

## PMEG3020ER
designator *  value PMEG3020ER  Reference: D
ki_keywords: forward voltage diode; ki_description: 30V, 2A low Vf MEGA Schottky barrier rectifier, SOD-123W; ki_fp_filters: Nexperia*CFP3*SOD?123W*; Footprint: Diode_SMD:Nexperia_CFP3_SOD-123W; Datasheet: https://assets.nexperia.com/documents/data-sheet/PMEG3020ER.pdf
pins: 1 K, 2 A

## PMEG4002EJ
designator *  value PMEG4002EJ  Reference: D
ki_keywords: forward voltage diode; ki_description: 40V, 200mA low Vf MEGA Schottky barrier rectifier, SOD-323F; ki_fp_filters: D*SOD?323F*; Footprint: Diode_SMD:D_SOD-323F; Datasheet: https://assets.nexperia.com/documents/data-sheet/PMEG4002EJ.pdf
pins: 1 K, 2 A

## PMEG4005CEJ
designator *  value PMEG4005CEJ  Reference: D
ki_keywords: forward voltage diode; ki_description: 40V, 500mA low Vf MEGA Schottky barrier rectifier, SOD-323F; ki_fp_filters: D*SOD?323F*; Footprint: Diode_SMD:D_SOD-323F; Datasheet: https://assets.nexperia.com/documents/data-sheet/PMEG4005CEJ.pdf
pins: 1 K, 2 A

## PMEG4005EH
designator *  value PMEG4005EH  Reference: D
ki_keywords: forward voltage diode; ki_description: 40V, 500mA very low Vf MEGA Schottky barrier rectifier, SOD-123F; ki_fp_filters: D*SOD?123F*; Footprint: Diode_SMD:D_SOD-123F; Datasheet: https://assets.nexperia.com/documents/data-sheet/PMEGXX05EH_EJ_SER.pdf
pins: 1 K, 2 A

## PMEG4005EJ
designator *  value PMEG4005EJ  Reference: D
ki_keywords: forward voltage diode; ki_description: 40V, 500mA very low Vf MEGA Schottky barrier rectifier, SOD-323F; ki_fp_filters: D*SOD?323F*; Footprint: Diode_SMD:D_SOD-323F; Datasheet: https://assets.nexperia.com/documents/data-sheet/PMEGXX05EH_EJ_SER.pdf
pins: 1 K, 2 A

## PMEG4010CEH
designator *  value PMEG4010CEH  Reference: D
ki_keywords: forward voltage diode; ki_description: 40V, 1A very low Vf MEGA Schottky barrier rectifier, SOD-123F; ki_fp_filters: D*SOD?123F*; Footprint: Diode_SMD:D_SOD-123F; Datasheet: https://assets.nexperia.com/documents/data-sheet/PMEG4010CEH_PMEG4010CEJ.pdf
pins: 1 K, 2 A

## PMEG4010CEJ
designator *  value PMEG4010CEJ  Reference: D
ki_keywords: forward voltage diode; ki_description: 40V, 1A very low Vf MEGA Schottky barrier rectifier, SOD-323F; ki_fp_filters: D*SOD?323F*; Footprint: Diode_SMD:D_SOD-323F; Datasheet: https://assets.nexperia.com/documents/data-sheet/PMEG4010CEH_PMEG4010CEJ.pdf
pins: 1 K, 2 A

## PMEG4010EH
designator *  value PMEG4010EH  Reference: D
ki_keywords: forward voltage diode; ki_description: 40V, 1A very low Vf MEGA Schottky barrier rectifier, SOD-123F; ki_fp_filters: D*SOD?123F*; Footprint: Diode_SMD:D_SOD-123F; Datasheet: https://assets.nexperia.com/documents/data-sheet/PMEG4010EH_EJ_ET.pdf
pins: 1 K, 2 A

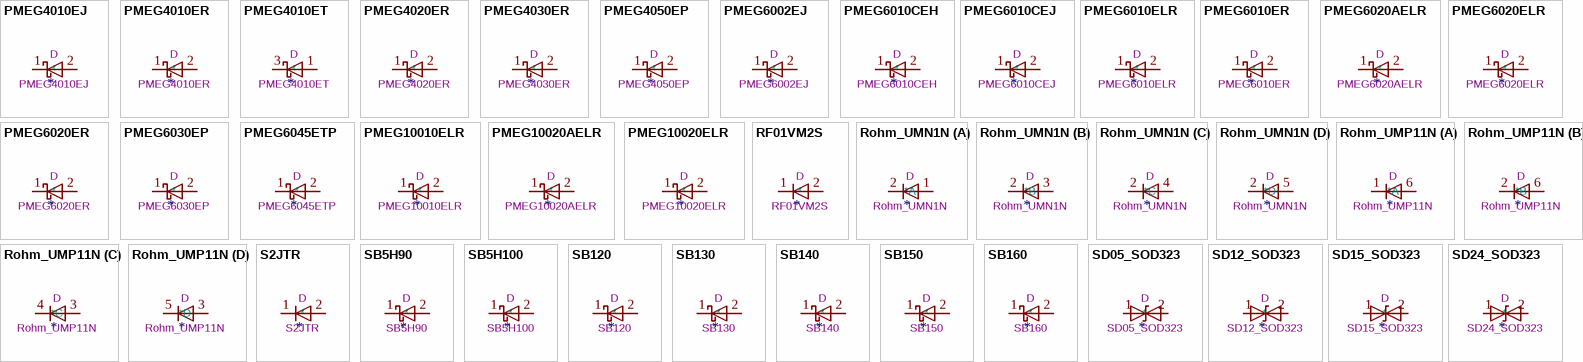
[diagram p12: symbols PMEG4010EJ to SD24_SOD323]

## PMEG4010EJ
designator *  value PMEG4010EJ  Reference: D
ki_keywords: forward voltage diode; ki_description: 40V, 1A very low Vf MEGA Schottky barrier rectifier, SOD-323F; ki_fp_filters: D*SOD?323F*; Footprint: Diode_SMD:D_SOD-323F; Datasheet: https://assets.nexperia.com/documents/data-sheet/PMEG4010EH_EJ_ET.pdf
pins: 1 K, 2 A

## PMEG4010ER
designator *  value PMEG4010ER  Reference: D
ki_keywords: forward voltage diode; ki_description: 40V, 1A low Vf MEGA Schottky barrier rectifier, SOD-123W; ki_fp_filters: Nexperia*CFP3*SOD?123W*; Footprint: Diode_SMD:Nexperia_CFP3_SOD-123W; Datasheet: https://assets.nexperia.com/documents/data-sheet/PMEG4010ER.pdf
pins: 1 K, 2 A

## PMEG4010ET
designator *  value PMEG4010ET  Reference: D
ki_keywords: forward voltage diode; ki_description: 40V, 1A very low Vf MEGA Schottky barrier rectifier, SOT-23; ki_fp_filters: SOT?23*; Footprint: Package_TO_SOT_SMD:SOT-23; Datasheet: https://assets.nexperia.com/documents/data-sheet/PMEG4010EH_EJ_ET.pdf
pins: 1 A, 2 NC hidden, 3 K

## PMEG4020ER
designator *  value PMEG4020ER  Reference: D
ki_keywords: forward voltage diode; ki_description: 40V, 2A low Vf MEGA Schottky barrier rectifier, SOD-123W; ki_fp_filters: Nexperia*CFP3*SOD?123W*; Footprint: Diode_SMD:Nexperia_CFP3_SOD-123W; Datasheet: https://assets.nexperia.com/documents/data-sheet/PMEG4020ER.pdf
pins: 1 K, 2 A

## PMEG4030ER
designator *  value PMEG4030ER  Reference: D
ki_keywords: forward voltage diode; ki_description: 40V, 3A low Vf MEGA Schottky barrier rectifier, SOD-123W; ki_fp_filters: Nexperia*CFP3*SOD?123W*; Footprint: Diode_SMD:Nexperia_CFP3_SOD-123W; Datasheet: https://assets.nexperia.com/documents/data-sheet/PMEG4030ER.pdf
pins: 1 K, 2 A

## PMEG4050EP
designator *  value PMEG4050EP  Reference: D
ki_keywords: forward voltage diode; ki_description: 40V, 5A low Vf Schottky barrier rectifier, SOD-128; ki_fp_filters: D*SOD?128*; Footprint: Diode_SMD:D_SOD-128; Datasheet: https://assets.nexperia.com/documents/data-sheet/PMEG4050EP.pdf
pins: 1 K, 2 A

## PMEG6002EJ
designator *  value PMEG6002EJ  Reference: D
ki_keywords: forward voltage diode; ki_description: 60V, 200mA very low Vf MEGA Schottky barrier rectifier, SOD-323F; ki_fp_filters: D*SOD?323F*; Footprint: Diode_SMD:D_SOD-323F; Datasheet: https://assets.nexperia.com/documents/data-sheet/PMEG6002EJ.pdf
pins: 1 K, 2 A

## PMEG6010CEH
designator *  value PMEG6010CEH  Reference: D
ki_keywords: forward voltage diode; ki_description: 60V, 1A very low Vf MEGA Schottky barrier rectifier, SOD-123F; ki_fp_filters: D*SOD?123F*; Footprint: Diode_SMD:D_SOD-123F; Datasheet: https://assets.nexperia.com/documents/data-sheet/PMEG6010CEH_PMEG6010CEJ.pdf
pins: 1 K, 2 A

## PMEG6010CEJ
designator *  value PMEG6010CEJ  Reference: D
ki_keywords: forward voltage diode; ki_description: 60V, 1A very low Vf MEGA Schottky barrier rectifier, SOD-323F; ki_fp_filters: D*SOD?323F*; Footprint: Diode_SMD:D_SOD-323F; Datasheet: https://assets.nexperia.com/documents/data-sheet/PMEG6010CEH_PMEG6010CEJ.pdf
pins: 1 K, 2 A

## PMEG6010ELR
designator *  value PMEG6010ELR  Reference: D
ki_keywords: ir diode; ki_description: 60V, 1A low leakage current MEGA Schottky barrier rectifier, SOD-123W; ki_fp_filters: Nexperia*CFP3*SOD?123W*; Footprint: Diode_SMD:Nexperia_CFP3_SOD-123W; Datasheet: https://assets.nexperia.com/documents/data-sheet/PMEG6010ELR.pdf
pins: 1 K, 2 A

## PMEG6010ER
designator *  value PMEG6010ER  Reference: D
ki_keywords: forward voltage diode; ki_description: 60V, 1A low Vf MEGA Schottky barrier rectifier, SOD-123W; ki_fp_filters: Nexperia*CFP3*SOD?123W*; Footprint: Diode_SMD:Nexperia_CFP3_SOD-123W; Datasheet: https://assets.nexperia.com/documents/data-sheet/PMEG6010ER.pdf
pins: 1 K, 2 A

## PMEG6020AELR
designator *  value PMEG6020AELR  Reference: D
ki_keywords: ir diode; ki_description: 60V, 2A low leakage current MEGA Schottky barrier rectifier, SOD-123W; ki_fp_filters: Nexperia*CFP3*SOD?123W*; Footprint: Diode_SMD:Nexperia_CFP3_SOD-123W; Datasheet: https://assets.nexperia.com/documents/data-sheet/PMEG6020AELR.pdf
pins: 1 K, 2 A

## PMEG6020ELR
designator *  value PMEG6020ELR  Reference: D
ki_keywords: ir diode; ki_description: 60V, 2A low leakage current MEGA Schottky barrier rectifier, SOD-123W; ki_fp_filters: Nexperia*CFP3*SOD?123W*; Footprint: Diode_SMD:Nexperia_CFP3_SOD-123W; Datasheet: https://assets.nexperia.com/documents/data-sheet/PMEG6020ELR.pdf
pins: 1 K, 2 A

## PMEG6020ER
designator *  value PMEG6020ER  Reference: D
ki_keywords: forward voltage diode; ki_description: 60V, 2A low Vf MEGA Schottky barrier rectifier, SOD-123W; ki_fp_filters: Nexperia*CFP3*SOD?123W*; Footprint: Diode_SMD:Nexperia_CFP3_SOD-123W; Datasheet: https://assets.nexperia.com/documents/data-sheet/PMEG6020ER.pdf
pins: 1 K, 2 A

## PMEG6030EP
designator *  value PMEG6030EP  Reference: D
ki_keywords: forward voltage diode; ki_description: 60V, 3A low Vf MEGA Schottky barrier rectifier, SOD-128; ki_fp_filters: D*SOD?128*; Footprint: Diode_SMD:D_SOD-128; Datasheet: https://assets.nexperia.com/documents/data-sheet/PMEG6030EP.pdf
pins: 1 K, 2 A

## PMEG6045ETP
designator *  value PMEG6045ETP  Reference: D
ki_keywords: forward voltage diode; ki_description: 60V, 4.5A High-Temperature Schottky barrier rectifier, SOD-128; ki_fp_filters: D*SOD?128*; Footprint: Diode_SMD:D_SOD-128; Datasheet: https://assets.nexperia.com/documents/data-sheet/PMEG6045ETP.pdf
pins: 1 K, 2 A

## PMEG10010ELR
designator *  value PMEG10010ELR  Reference: D
ki_keywords: ir diode; ki_description: 100V, 1A low leakage current MEGA Schottky barrier rectifier, SOD-123W; ki_fp_filters: Nexperia*CFP3*SOD?123W*; Footprint: Diode_SMD:Nexperia_CFP3_SOD-123W; Datasheet: https://assets.nexperia.com/documents/data-sheet/PMEG10010ELR.pdf
pins: 1 K, 2 A

## PMEG10020AELR
designator *  value PMEG10020AELR  Reference: D
ki_keywords: ir diode; ki_description: 100V, 2A low leakage current MEGA Schottky barrier rectifier, SOD-123W; ki_fp_filters: Nexperia*CFP3*SOD?123W*; Footprint: Diode_SMD:Nexperia_CFP3_SOD-123W; Datasheet: https://assets.nexperia.com/documents/data-sheet/PMEG10020AELR.pdf
pins: 1 K, 2 A

## PMEG10020ELR
designator *  value PMEG10020ELR  Reference: D
ki_keywords: ir diode; ki_description: 100V, 2A low leakage current MEGA Schottky barrier rectifier, SOD-123W; ki_fp_filters: Nexperia*CFP3*SOD?123W*; Footprint: Diode_SMD:Nexperia_CFP3_SOD-123W; Datasheet: https://assets.nexperia.com/documents/data-sheet/PMEG10020ELR.pdf
pins: 1 K, 2 A

## RF01VM2S
designator *  value RF01VM2S  Reference: D
Sim.Pins: 1=K 2=A; ki_keywords: diode; ki_description: 250 V, 100 mA, Super Fast Recovery Diode, SOD-323; ki_fp_filters: D*SOD?323*; Footprint: Diode_SMD:D_SOD-323; Datasheet: https://fscdn.rohm.com/en/products/databook/datasheet/discrete/diode/fast_recovery/rf01vm2s.pdf; Sim.Device: D
pins: 1 K, 2 A

## Rohm_UMN1N
designator *  value Rohm_UMN1N  Reference: D
ki_keywords: diode; ki_description: High-speed switching diodes 2 pair Com K; ki_fp_filters: SOT?353*; Footprint: Package_TO_SOT_SMD:SOT-353_SC-70-5; Datasheet: https://fscdn.rohm.com/en/products/databook/datasheet/discrete/diode/switching/umn1ntr-e.pdf
part A pins: 1 A, 2 K
part B pins: 2 K, 3 A
part C pins: 2 K, 4 A
part D pins: 2 K, 5 A

## Rohm_UMP11N
designator *  value Rohm_UMP11N  Reference: D
ki_keywords: diode; ki_description: High-speed switching diodes 2 pair Com A; ki_fp_filters: SOT?363*; Footprint: Package_TO_SOT_SMD:SOT-363_SC-70-6; Datasheet: https://fscdn.rohm.com/en/products/databook/datasheet/discrete/diode/switching/ump11ntn-e.pdf
part A pins: 1 K, 6 A
part B pins: 2 K, 6 A
part C pins: 3 A, 4 K
part D pins: 3 A, 5 K

## S2JTR
designator *  value S2JTR  Reference: D
Sim.Pins: 1=K 2=A; ki_keywords: diode; ki_description: 600V 2A General Purpose Rectifier Diode, SMB; ki_fp_filters: *D?SMB*; Footprint: Diode_SMD:D_SMB; Datasheet: http://www.smc-diodes.com/propdf/S2A-S2M%20N0562%20REV.A.pdf; Sim.Device: D
pins: 1 K, 2 A

## SB5H90
designator *  value SB5H90  Reference: D
ki_keywords: diode Schottky; ki_description: 90V 5A Schottky Barrier Rectifier Diode, DO-201AD; ki_fp_filters: D*DO?201AD*; Footprint: Diode_THT:D_DO-201AD_P15.24mm_Horizontal; Datasheet: https://www.vishay.com/docs/88722/sb5h90.pdf
pins: 1 K, 2 A

## SB5H100
designator *  value SB5H100  Reference: D
ki_keywords: diode Schottky; ki_description: 100V 5A Schottky Barrier Rectifier Diode, DO-201AD; ki_fp_filters: D*DO?201AD*; Footprint: Diode_THT:D_DO-201AD_P15.24mm_Horizontal; Datasheet: https://www.vishay.com/docs/88722/sb5h90.pdf
pins: 1 K, 2 A

## SB120
designator *  value SB120  Reference: D
ki_keywords: diode Schottky; ki_description: 20V 1A Schottky Barrier Rectifier Diode, DO-41; ki_fp_filters: D*DO?41*; Footprint: Diode_THT:D_DO-41_SOD81_P10.16mm_Horizontal; Datasheet: http://www.diodes.com/_files/datasheets/ds23022.pdf
pins: 1 K, 2 A

## SB130
designator *  value SB130  Reference: D
ki_keywords: diode Schottky; ki_description: 30V 1A Schottky Barrier Rectifier Diode, DO-41; ki_fp_filters: D*DO?41*; Footprint: Diode_THT:D_DO-41_SOD81_P10.16mm_Horizontal; Datasheet: http://www.diodes.com/_files/datasheets/ds23022.pdf
pins: 1 K, 2 A

## SB140
designator *  value SB140  Reference: D
ki_keywords: diode Schottky; ki_description: 40V 1A Schottky Barrier Rectifier Diode, DO-41; ki_fp_filters: D*DO?41*; Footprint: Diode_THT:D_DO-41_SOD81_P10.16mm_Horizontal; Datasheet: http://www.diodes.com/_files/datasheets/ds23022.pdf
pins: 1 K, 2 A

## SB150
designator *  value SB150  Reference: D
ki_keywords: diode Schottky; ki_description: 50V 1A Schottky Barrier Rectifier Diode, DO-41; ki_fp_filters: D*DO?41*; Footprint: Diode_THT:D_DO-41_SOD81_P10.16mm_Horizontal; Datasheet: http://www.diodes.com/_files/datasheets/ds23022.pdf
pins: 1 K, 2 A

## SB160
designator *  value SB160  Reference: D
ki_keywords: diode Schottky; ki_description: 60V 1A Schottky Barrier Rectifier Diode, DO-41; ki_fp_filters: D*DO?41*; Footprint: Diode_THT:D_DO-41_SOD81_P10.16mm_Horizontal; Datasheet: http://www.diodes.com/_files/datasheets/ds23022.pdf
pins: 1 K, 2 A

## SD05_SOD323
designator *  value SD05_SOD323  Reference: D
ki_keywords: transient voltage suppressor thyrector transil; ki_description: 5V, 450W Discrete Bidirectional TVS Diode, SOD-323; ki_fp_filters: D?SOD?323*; Footprint: Diode_SMD:D_SOD-323; Datasheet: https://www.littelfuse.com/~/media/electronics/datasheets/tvs_diode_arrays/littelfuse_tvs_diode_array_sd_c_datasheet.pdf.pdf
pins: 1 A1, 2 A2